# Altium footprint library esp8266modules.PCBLIB: 25 footprints (part 1 of 2)
Each footprint in its own frame and in the unit in brackets; x right, y up, seen from the top. Pads: shape width x height; smd on the part's side, far side on the other; paste and mask are expansions set on the pad; w line width, h text height; cw(c..) or ccw(c..) is an arc to the next point about the centre after c.
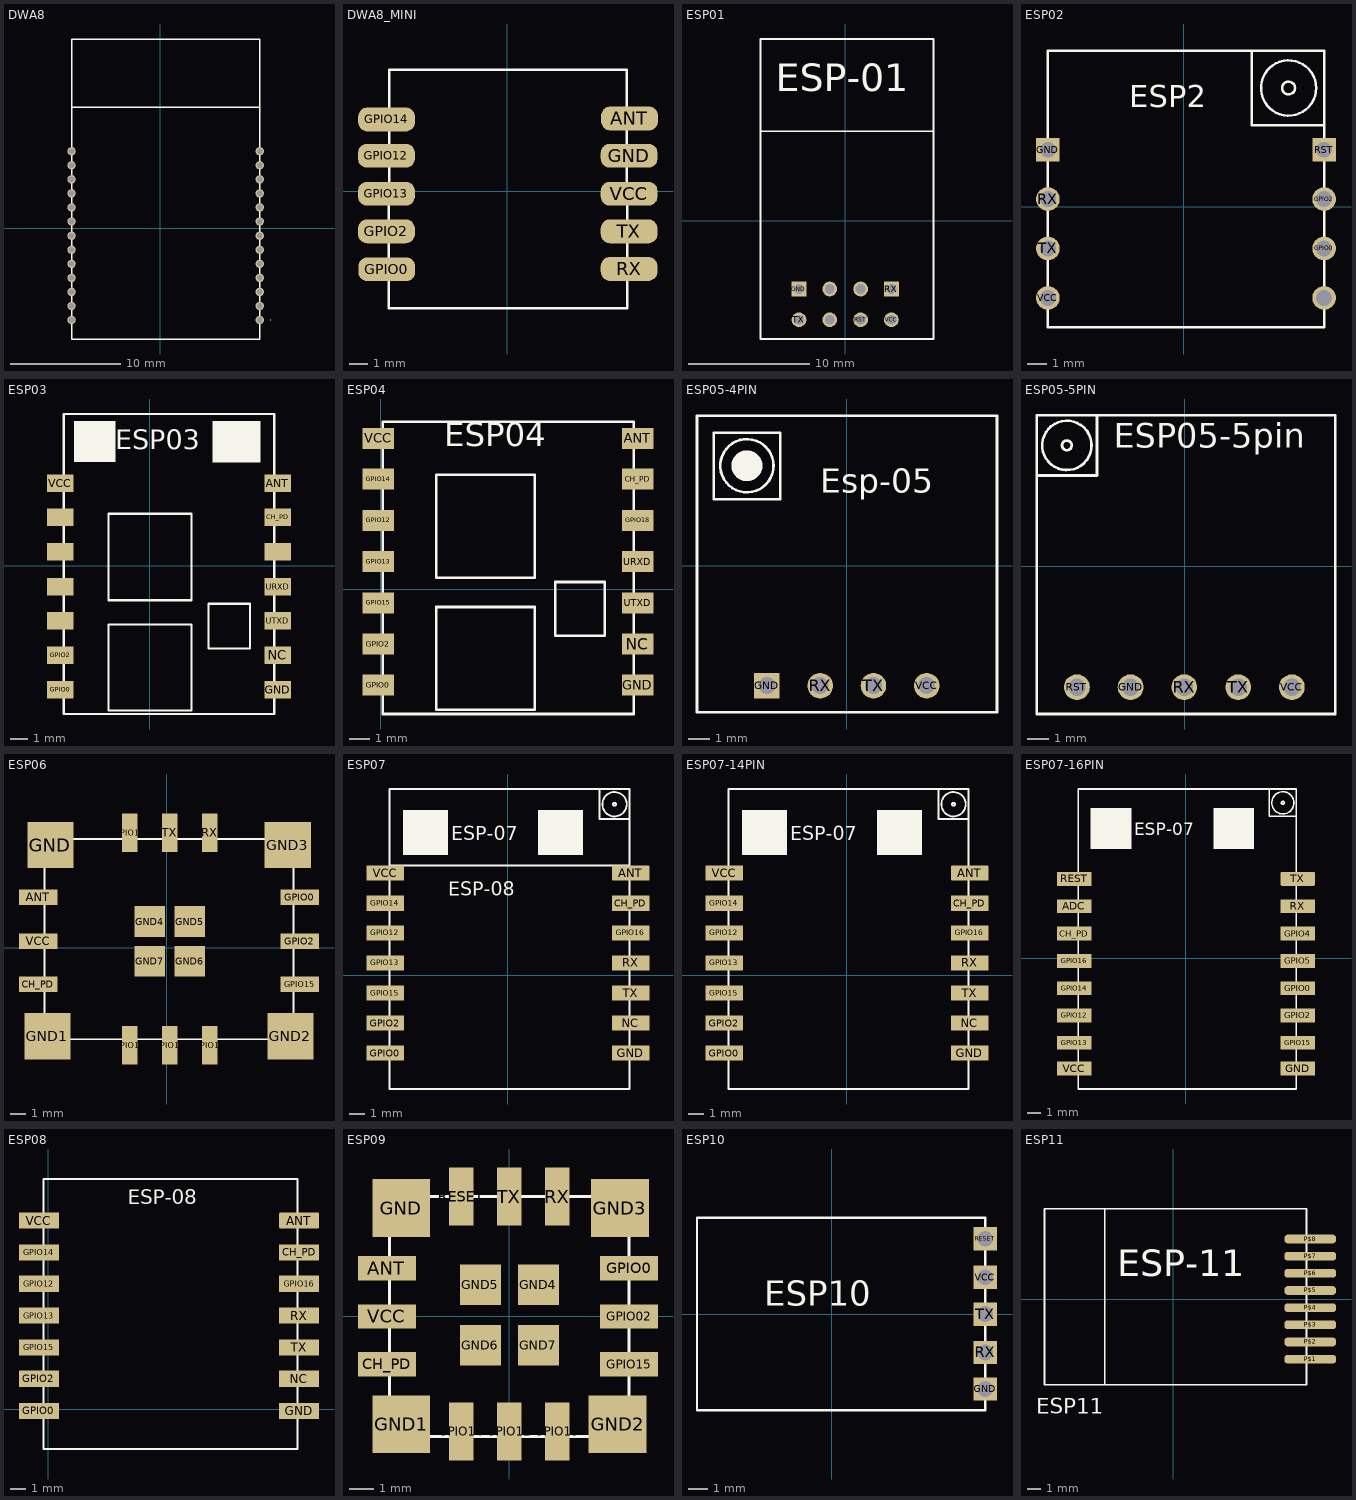
[diagram p0: the footprints below, top view; thin cyan lines are the x and y axes]

## DWA8 [mil]
pads (26):
  round 30 hole 20: ANT(355,275) CH_EN(-315.35,75) GND(-315.35,275) GND1(355,175) GND2(355,225) GPIO0(-315.35,-275.98) GPIO2(-315.35,-225.98) GPIO12(-315.35,-75.98) GPIO13(-315.35,-125.98) GPIO14(-315.35,-25.98) GPIO15(-315.35,-175.98) GPIO16(-315.35,25) NC(-315.35,-325.98) NC1(355,-25.98) RESET(-315.35,225) RX(355,25) SD_CLK(355,-275.98) SD_CMD(355,-225.98) SD_D0(355,-175.98) SD_D1(355,-75.98) SD_D2(355,-325.98) SD_D3(355,-125.98) TOUT(-315.35,125) TX(355,75) VCC(355,125) VCCRTC(-315.35,175)
Top Overlay:
  lines w0: 394,-326.38 394,-325.98
  lines w5: -314.96,432 -314.96,675 355,675 355,432 ; -314.96,432 -314.96,-393.7 355,-393.7 355,432 ; -314.96,432 355,432
Mechanical 4:
  text "ESP8266 - DWA8" at -275.59,355 h77.5

## DWA8_MINI [mil]
pads (10):
  rrect75% 119x50 smd: ANT(256,152) GND(255,74) GPIO0(-252.36,-163.78) GPIO2(-253.15,-84.25) GPIO12(-253.15,74) GPIO13(-253.15,-5.51) GPIO14(-252.76,150) RX(255,-162.99) TX(255,-84.25) VCC(255,-5.51)
Top Overlay:
  lines w5: -248.03,-245.28 251,-245.28 250,254 -247.24,254 -248.03,-245.28

## ESP01 [mil]
pads (8):
  round 48 hole 32: CH_PD(-50.59,-321.95) GPIO0(50,-221.95) GPIO2(-50.59,-221.95) RST(50,-321.95) TX(-150.59,-321.95) VCC(150,-321.95)
  rect 48x48 hole 32: GND(-150.59,-221.95) RX(150,-221.95)
Top Overlay:
  lines w5: -275.59,291 -275.59,591 287,591 287,291 ; -275.59,291 -275.59,-384.45 287,-384.45 287,291 ; -275.59,291 287,291
  text "ESP-01" at -225.59,391 h155

## ESP02 [mil]
pads (8):
  rect 48x48 hole 32: GND(-275.59,115) RST(284,115)
  round 48 hole 32: GPIO0(284,-85.04) GPIO2(284,15) GPIO15/POWERDOWN(284,-185.04) RX(-275.59,15) TX(-275.59,-85.04) VCC(-275.59,-185.04)
Top Overlay:
  circle w5: c212,240 r56
  circle w5: c212,240 r13
  lines w5: 283,165 137,165 137,315 ; 137,315 284,315 284,-244.09 -275.59,-244.09 -275.59,315 137,315
  text "ESP2" at -110.63,186 h77.5

## ESP03 [mil]
pads (14):
  rect 60x40 smd: ANT(292,189) CH_PD(292,111) GND(292,-283.46) GPIO0(-204.72,-283.46) GPIO2(-204.72,-204.72) GPIO12(-204.72,32) GPIO13(-204.72,-47.24) GPIO14(-204.72,111) GPIO15(-204.72,-125.98) GPIO18(292,32) NC(292,-204.72) URXD(292,-47.24) UTXD(292,-125.98) VCC(-204.72,189)
Top Overlay:
  region: -172.98,331.24 -172.98,236.76 -78.98,236.76 -78.98,331.24
  region: 142.5,331.5 142.5,236.5 252.5,236.5 252.5,331.5
  lines w5: -196.85,-338.58 284,-338.58 284,221 284,347 -196.85,347 -196.85,221 -196.85,-338.58 ; -94.49,-330.71 -94.49,-133.86 95,-133.86 95,-330.71 -94.49,-330.71 ; -94.49,-78.74 -94.49,119 95,119 95,-78.74 -94.49,-78.74 ; 134,-188.98 134,-86.61 229,-86.61 229,-188.98 134,-188.98
  text "ESP03" at -78.74,252 h77.5

## ESP04 [mil]
pads (14):
  rect 60x40 smd: ANT(492,289) CH_PD(492,211) GND(492,-183.46) GPIO0(-4.72,-183.46) GPIO2(-4.72,-104.72) GPIO12(-4.72,132) GPIO13(-4.72,53) GPIO14(-4.72,211) GPIO15(-4.72,-25.98) GPIO18(492,132) NC(492,-104.72) URXD(492,53) UTXD(492,-25.98) VCC(-4.72,289)
Top Overlay:
  lines w5: 4,-238.58 484,-238.58 484,321 4,321 4,-238.58 ; 106,-230.71 106,-33.86 295,-33.86 295,-230.71 106,-230.71 ; 106,22 106,219 295,219 295,22 106,22 ; 334,-88.98 334,14 429,14 429,-88.98 334,-88.98
  text "ESP04" at 122,258 h77.5

## ESP05-4PIN [mil]
pads (4):
  rect 48x48 hole 32: GND(-150,-225)
  round 48 hole 32: RX(-50,-225) TX(50,-225) VCC(150,-225)
Top Overlay:
  circle w5: c-187.5,188 r50
  circle w32: c-187.5,188 r13
  lines w5: -281.25,-275 282,-275 282,282 -281.25,282 -281.25,-275 ; -250,125 -125,125 -125,250 -250,250 -250,125
  text "Esp-05" at -50,122 h77.5

## ESP05-5PIN [mil]
pads (5):
  round 48 hole 32: GND(-100.59,-225.59) RST(-200.59,-225.59) RX(-0.59,-225.59) TX(100,-225.59) VCC(200,-225.59)
Top Overlay:
  circle w5: c-219.34,225 r46
  circle w5: c-219.34,225 r9
  lines w5: -275.59,169 -275.59,281 -163.09,281 ; -275.59,169 -275.59,-275.59 281,-275.59 281,281 -163.09,281 ; -275.59,169 -163.09,169 -163.09,281
  text "ESP05-5pin" at -131.84,206 h77.5

## ESP06 [mil]
pads (20):
  rect 99x40 smd: ANT(-330.71,130) CH_PD(-330.71,-94.49) GPIO0(343,130) GPIO2(343,16) GPIO15(343,-94.49) VCC(-330.71,16)
  rect 119x119 smd: GND(-299.21,264) GND1(-307.09,-228.35) GND2(319,-228.35) GND3(312,264)
  rect 79x79 smd: GND4(-43.31,67) GND5(60,67) GND6(60,-35.43) GND7(-43.31,-35.43)
  rect 40x99 smd: GPIO12(8,-251.97) GPIO13(111,-251.97) GPIO14(-94.49,-251.97) GPIO16(-94.49,296) RX(111,296) TX(8,296)
Top Overlay:
  lines w5: -314.96,-236.22 327,-236.22 327,280 -314.96,280 -314.96,-236.22
Mechanical 2:
  text "ESP06" at -86.61,134 h77.5

## ESP07 [mil]
pads (14):
  rrect17% 99x40 smd: ANT(323,268)
  rect 99x40 smd: CH_PD(323,189) GND(323,-204.72) GPIO0(-322.83,-204.72) GPIO2(-322.83,-125.98) GPIO12(-322.83,111) GPIO13(-322.83,32) GPIO14(-322.83,189) GPIO15(-322.83,-47.24) GPIO16(323,111) NC(323,-125.98) RX(323,32) TX(323,-47.24) VCC(-322.83,268)
Top Overlay:
  circle w5: c280,449 r32
  circle w5: c280,449 r4
  rectangle: -275.59,315 -157.48,434
  rectangle: 79,315 197,434
  lines w5: -311.02,288 -311.02,489 241,489 ; -311.02,288 -311.02,-299.21 319,-299.21 319,288 ; -311.02,288 319,288 ; 241,489 319,489 319,410 ; 241,489 241,410 319,410 ; 319,288 319,410
  text "ESP-07" at -149.61,343 h62
  text "ESP-08" at -157.48,197 h62

## ESP07-14PIN [mil]
pads (14):
  rrect17% 99x40 smd: ANT(323,268)
  rect 99x40 smd: CH_PD(323,189) GND(323,-204.72) GPIO0(-322.83,-204.72) GPIO2(-322.83,-125.98) GPIO12(-322.83,111) GPIO13(-322.83,32) GPIO14(-322.83,189) GPIO15(-322.83,-47.24) GPIO16(323,111) NC(323,-125.98) RX(323,32) TX(323,-47.24) VCC(-322.83,268)
Top Overlay:
  circle w5: c280,449 r32
  circle w5: c280,449 r4
  rectangle: -275.59,315 -157.48,434
  rectangle: 79,315 197,434
  lines w5: 241,489 319,489 319,410 ; 241,489 -311.02,489 -311.02,288 -311.02,-299.21 319,-299.21 319,288 319,410 ; 241,489 241,410 319,410
  text "ESP-07" at -149.61,343 h62

## ESP07-16PIN [mil]
pads (16):
  rect 99x40 smd: ADC(-322.83,150) CH_PD(-322.83,71) GND(323,-319.09) GPIO0(323,-86.61) GPIO2(323,-165.35) GPIO4(323,71) GPIO5(323,-7.87) GPIO12(-322.83,-165.35) GPIO13(-322.83,-244.09) GPIO14(-322.83,-86.61) GPIO15(323,-244.09) GPIO16(-322.83,-7.87) REST(-322.83,229) RX(323,150) VCC(-322.83,-319.09)
  rrect17% 99x40 smd: TX(323,229)
Top Overlay:
  circle w5: c280,449 r32
  circle w5: c280,449 r4
  rectangle: -275.59,315 -157.48,434
  rectangle: 79,315 197,434
  lines w5: 241,489 319,489 319,410 ; 241,489 -311.02,489 -311.02,252 -311.02,-377.95 319,-377.95 319,252 319,410 ; 241,489 241,410 319,410
  text "ESP-07" at -149.61,343 h62

## ESP08 [mil]
pads (14):
  rrect17% 99x40 smd: ANT(623,468)
  rect 99x40 smd: CH_PD(623,389) GND(623,-4.72) GPIO0(-22.83,-4.72) GPIO2(-22.83,75) GPIO12(-22.83,311) GPIO13(-22.83,232) GPIO14(-22.83,389) GPIO15(-22.83,153) GPIO16(623,311) NC(623,75) RX(623,232) TX(623,153) VCC(-22.83,468)
Top Overlay:
  lines w5: -11.02,-99.21 -11.02,571 619,571 619,-99.21 -11.02,-99.21
  text "ESP-08" at 198,496 h62

## ESP09 [mil]
pads (20):
  rect 95x40 smd: ANT(-200.79,79) CH_PD(-200.79,-78.74) GPIO0(197,79) GPIO02(197,0) GPIO15(197,-78.74) VCC(-200.79,0)
  rect 95x95 smd: GND(-177.17,178) GND1(-177.17,-177.17) GND2(178,-177.17) GND3(182,178)
  rect 67x67 smd: GND4(48,52) GND5(-47.24,52) GND6(-47.24,-47.24) GND7(48,-47.24)
  rect 40x95 smd: GPIO12(0,-188.98) GPIO13(79,-188.98) GPIO14(-78.74,-188.98) RESET(-78.74,197) RX(79,197) TX(0,197)
Top Overlay:
  lines w5: -196.85,-196.85 197,-196.85 197,197 -196.85,197 -196.85,-196.85

## ESP10 [mil]
pads (5):
  rect 48x48 hole 32: GND(315,-153.54) RESET(315,154) RX(315,-78.74) TX(315,0) VCC(315,75)
Top Overlay:
  lines w5: -275.59,-196.85 315,-196.85 315,197 -275.59,197 -275.59,-196.85
  text "ESP10" at -137.8,0 h86.8

## ESP11 [mil]
pads (8):
  rrect67% 150x25 smd: P$1(399,-175) P$2(399,-125) P$3(399,-75) P$4(399,-25) P$5(399,25) P$6(399,75) P$7(399,125) P$8(399,175)
Top Overlay:
  lines w5: -200,-100 -200,-50 ; -200,0 -200,50 ; -200,100 -200,150 ; -200,262 -200,-250 ; -200,-250 -375,-250 -375,263 388,263 388,-250 -200,-250
  text "ESP-11" at -162.99,40 h133.3
  text "ESP11" at -400,-350 h77.5